# Altium footprint library SOP50P490X110-10N.PcbLib: 1 footprints
Each footprint in its own frame and in the unit in brackets; x right, y up, seen from the top. Pads: shape width x height; smd on the part's side, far side on the other; paste and mask are expansions set on the pad; w line width, h text height; cw(c..) or ccw(c..) is an arc to the next point about the centre after c.
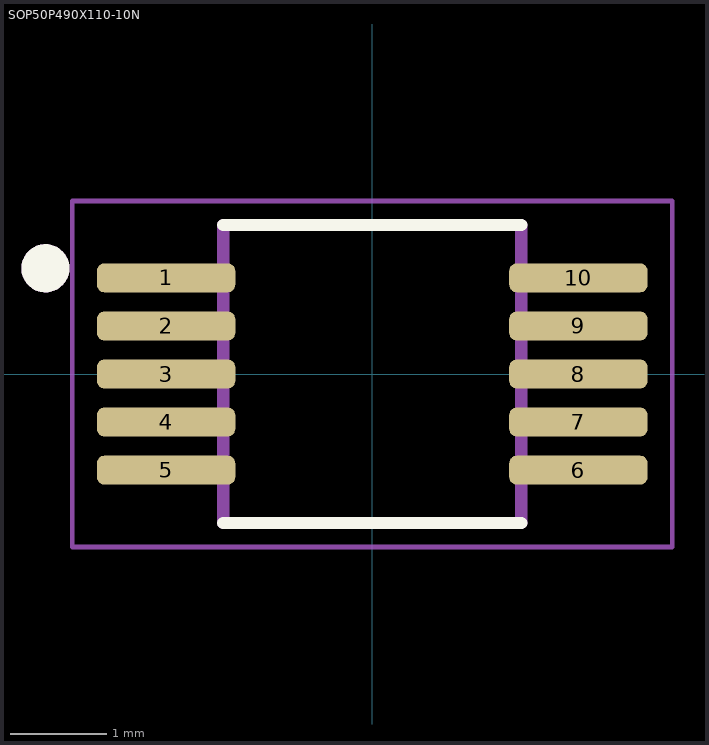
[diagram p0: the footprint, top view; thin cyan lines are the x and y axes]

## SOP50P490X110-10N [mm]
pads (10):
  rrect50% 1.44x0.3 smd: 1(-2.145,1) 2(-2.145,0.5) 3(-2.145,0) 4(-2.145,-0.5) 5(-2.145,-1) 6(2.145,-1) 7(2.145,-0.5) 8(2.145,0) 9(2.145,0.5) 10(2.145,1)
Top Overlay:
  circle w0.3: c-3.4,1.1 r0.1
  lines w0.127: -1.55,-1.55 1.55,-1.55 ; -1.55,1.55 1.55,1.55
Mechanical 13:
  circle w0.3: c-3.4,1.1 r0.1
  lines w0.127: -1.55,-1.55 -1.55,1.55 1.55,1.55 1.55,-1.55 -1.55,-1.55
Mechanical 15:
  lines w0.05: -3.12,-1.8 -3.12,1.8 3.12,1.8 3.12,-1.8 -3.12,-1.8
3D body "step_temp.STEP": height 1.1, standoff 0, extent -2.45,-1.5 2.45,1.5